# EAGLE library part DGD2304 (library Custom_old)
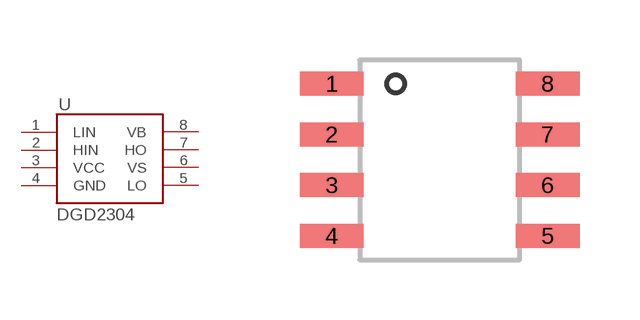
[diagram p31: symbol with the pads of SOIC8; footprint SOIC8]

Designator prefix -

## DGD2304  [SOIC8]
1  LIN
2  HIN
3  VCC
4  GND
5  LO
6  VS
7  HO
8  VB

## Footprint SOIC8 (pad centres in mm)
smd 1.6 x 0.6: 1 -2.7,1.905; 2 -2.7,0.635; 3 -2.7,-0.635; 4 -2.7,-1.905; 5 2.7,-1.905; 6 2.7,-0.635; 7 2.7,0.635; 8 2.7,1.905